# Altium footprint library Package_DIP.PcbLib: 281 footprints (part 3 of 18)
Each footprint in its own frame and in the unit in brackets; x right, y up, seen from the top. Pads: shape width x height; smd on the part's side, far side on the other; paste and mask are expansions set on the pad; w line width, h text height; cw(c..) or ccw(c..) is an arc to the next point about the centre after c.
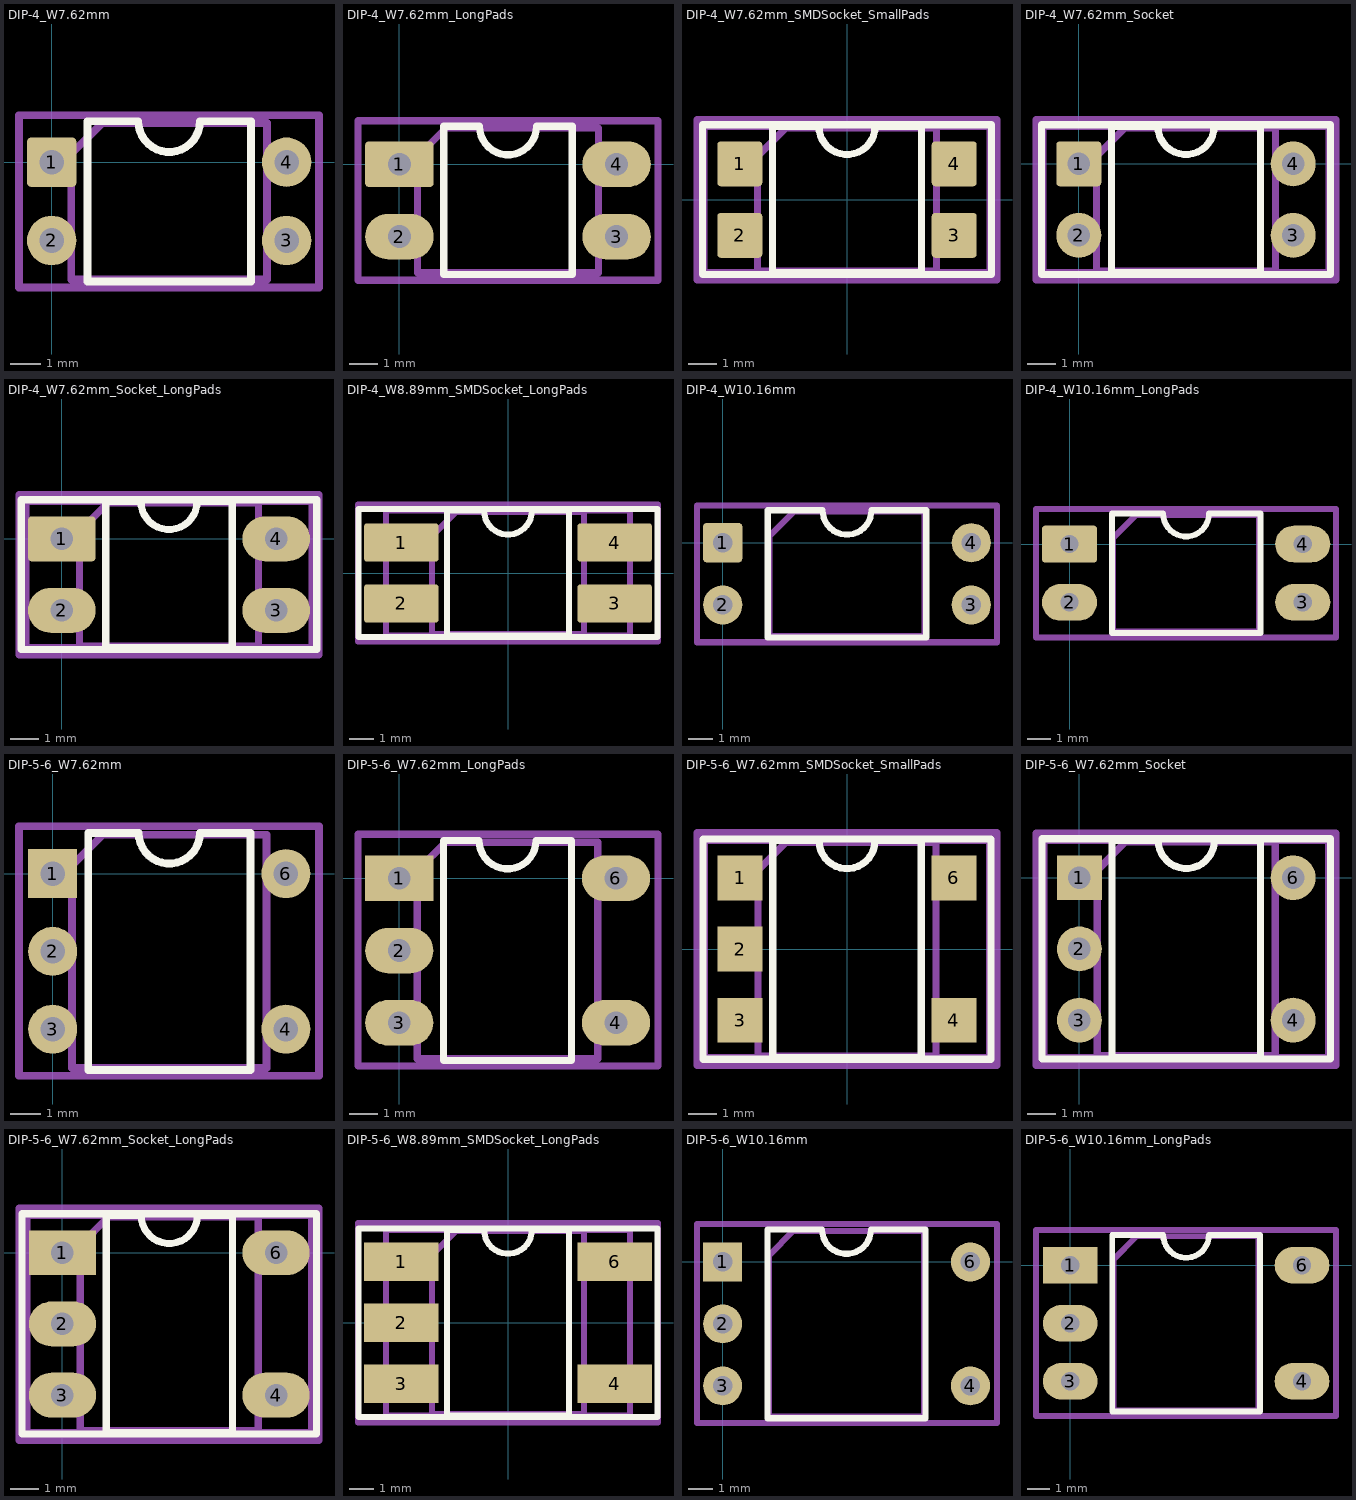
[diagram p2: the footprints below, top view; thin cyan lines are the x and y axes]

## DIP-4_W7.62mm [mm]
pads (4):
  rrect16% 1.6x1.6 hole 0.8: 1(0,0)
  round 1.6 hole 0.8: 2(0,-2.54) 3(7.62,-2.54) 4(7.62,0)
F.SilkS:
  lines w0.254: 1.16,-3.87 6.46,-3.87 6.46,1.33 4.81,1.33 cw(c3.81,1.33) 2.81,1.33 1.16,1.33 1.16,-3.87
Top Assembly:
  lines w0.254: 0.635,-3.81 6.985,-3.81 6.985,1.27 1.635,1.27 0.635,0.27 0.635,-3.81
  text "'.Designator'" at -0.237,-2.11 h1
Top Courtyard:
  lines w0.254: -1.06,-4.07 8.67,-4.07 8.67,1.52 -1.06,1.52 -1.06,-4.07
Top Designator:
  text ".Designator" at -3.813,-1.783 h1.52
3D body "DIP-4_W7.62mm.step": height 3.68, standoff -3.3, extent -0.127,-3.735 7.747,1.195

## DIP-4_W7.62mm_LongPads [mm]
pads (4):
  rrect16% 2.4x1.6 hole 0.8: 1(0,0)
  rrect100% 2.4x1.6 hole 0.8: 2(0,-2.54) 3(7.62,-2.54) 4(7.62,0)
F.SilkS:
  lines w0.254: 1.56,-3.87 6.06,-3.87 6.06,1.33 4.81,1.33 cw(c3.81,1.33) 2.81,1.33 1.56,1.33 1.56,-3.87
Top Assembly:
  lines w0.254: 0.635,-3.81 6.985,-3.81 6.985,1.27 1.635,1.27 0.635,0.27 0.635,-3.81
  text "'.Designator'" at -0.237,-2.11 h1
Top Courtyard:
  lines w0.254: -1.45,-4.07 9.07,-4.07 9.07,1.52 -1.45,1.52 -1.45,-4.07
Top Designator:
  text ".Designator" at 0.376,-1.62 h1.52
3D body "DIP-4_W7.62mm.step": height 3.68, standoff -3.3, extent -0.254,-3.787 7.62,1.143

## DIP-4_W7.62mm_SMDSocket_SmallPads [mm]
pads (4):
  rrect16% 1.6x1.6 smd: 1(-3.81,1.27) 2(-3.81,-1.27) 3(3.81,-1.27) 4(3.81,1.27)
F.SilkS:
  lines w0.254: -5.14,-2.66 5.14,-2.66 5.14,2.66 -5.14,2.66 -5.14,-2.66 ; -2.65,-2.6 2.65,-2.6 2.65,2.6 1,2.6 cw(c0,2.6) -1,2.6 -2.65,2.6 -2.65,-2.6
Top Assembly:
  lines w0.254: -5.08,-2.6 5.08,-2.6 5.08,2.6 -5.08,2.6 -5.08,-2.6 ; -3.175,-2.54 3.175,-2.54 3.175,2.54 -2.175,2.54 -3.175,1.54 -3.175,-2.54
  text "'.Designator'" at -4.047,-0.84 h1
Top Courtyard:
  lines w0.254: -5.33,-2.85 5.33,-2.85 5.33,2.85 -5.33,2.85 -5.33,-2.85
Top Designator:
  text ".Designator" at -7.618,-0.508 h1.52

## DIP-4_W7.62mm_Socket [mm]
pads (4):
  rrect16% 1.6x1.6 hole 0.8: 1(0,0)
  round 1.6 hole 0.8: 2(0,-2.54) 3(7.62,-2.54) 4(7.62,0)
F.SilkS:
  lines w0.254: -1.33,-3.93 8.95,-3.93 8.95,1.39 -1.33,1.39 -1.33,-3.93 ; 1.16,-3.87 6.46,-3.87 6.46,1.33 4.81,1.33 cw(c3.81,1.33) 2.81,1.33 1.16,1.33 1.16,-3.87
Top Assembly:
  lines w0.254: -1.27,-3.87 8.89,-3.87 8.89,1.33 -1.27,1.33 -1.27,-3.87 ; 0.635,-3.81 6.985,-3.81 6.985,1.27 1.635,1.27 0.635,0.27 0.635,-3.81
  text "'.Designator'" at -0.237,-2.11 h1
Top Courtyard:
  lines w0.254: -1.52,-4.12 9.14,-4.12 9.14,1.58 -1.52,1.58 -1.52,-4.12
Top Designator:
  text ".Designator" at -3.808,-1.778 h1.52

## DIP-4_W7.62mm_Socket_LongPads [mm]
pads (4):
  rrect16% 2.4x1.6 hole 0.8: 1(0,0)
  rrect100% 2.4x1.6 hole 0.8: 2(0,-2.54) 3(7.62,-2.54) 4(7.62,0)
F.SilkS:
  lines w0.254: -1.44,-3.93 9.06,-3.93 9.06,1.39 -1.44,1.39 -1.44,-3.93 ; 1.56,-3.87 6.06,-3.87 6.06,1.33 4.81,1.33 cw(c3.81,1.33) 2.81,1.33 1.56,1.33 1.56,-3.87
Top Assembly:
  lines w0.254: -1.27,-3.87 8.89,-3.87 8.89,1.33 -1.27,1.33 -1.27,-3.87 ; 0.635,-3.81 6.985,-3.81 6.985,1.27 1.635,1.27 0.635,0.27 0.635,-3.81
  text "'.Designator'" at -0.237,-2.11 h1
Top Courtyard:
  lines w0.254: -1.52,-4.12 9.14,-4.12 9.14,1.58 -1.52,1.58 -1.52,-4.12
Top Designator:
  text ".Designator" at -3.808,-1.778 h1.52

## DIP-4_W8.89mm_SMDSocket_LongPads [mm]
pads (4):
  rrect16% 3.1x1.6 smd: 1(-4.445,1.27) 2(-4.445,-1.27) 3(4.445,-1.27) 4(4.445,1.27)
F.SilkS:
  lines w0.254: -6.235,-2.66 6.235,-2.66 6.235,2.66 -6.235,2.66 -6.235,-2.66 ; -2.535,-2.6 2.535,-2.6 2.535,2.6 1,2.6 cw(c0,2.6) -1,2.6 -2.535,2.6 -2.535,-2.6
Top Assembly:
  lines w0.254: -5.08,-2.6 5.08,-2.6 5.08,2.6 -5.08,2.6 -5.08,-2.6 ; -3.175,-2.54 3.175,-2.54 3.175,2.54 -2.175,2.54 -3.175,1.54 -3.175,-2.54
  text "'.Designator'" at -4.047,-0.84 h1
Top Courtyard:
  lines w0.254: -6.25,-2.85 6.25,-2.85 6.25,2.85 -6.25,2.85 -6.25,-2.85
Top Designator:
  text ".Designator" at -7.618,-0.508 h1.52

## DIP-4_W10.16mm [mm]
pads (4):
  rrect16% 1.6x1.6 hole 0.8: 1(0,0)
  round 1.6 hole 0.8: 2(0,-2.54) 3(10.16,-2.54) 4(10.16,0)
F.SilkS:
  lines w0.254: 1.845,-3.87 8.315,-3.87 8.315,1.33 6.08,1.33 cw(c5.08,1.33) 4.08,1.33 1.845,1.33 1.845,-3.87
Top Assembly:
  lines w0.254: 1.905,-3.81 8.255,-3.81 8.255,1.27 2.905,1.27 1.905,0.27 1.905,-3.81
  text "'.Designator'" at 1.033,-2.11 h1
Top Courtyard:
  lines w0.254: -1.05,-4.07 11.21,-4.07 11.21,1.52 -1.05,1.52 -1.05,-4.07
Top Designator:
  text ".Designator" at -2.538,-1.783 h1.52

## DIP-4_W10.16mm_LongPads [mm]
pads (4):
  rrect16% 2.4x1.6 hole 0.8: 1(0,0)
  rrect100% 2.4x1.6 hole 0.8: 2(0,-2.54) 3(10.16,-2.54) 4(10.16,0)
F.SilkS:
  lines w0.254: 1.845,-3.87 8.315,-3.87 8.315,1.33 6.08,1.33 cw(c5.08,1.33) 4.08,1.33 1.845,1.33 1.845,-3.87
Top Assembly:
  lines w0.254: 1.905,-3.81 8.255,-3.81 8.255,1.27 2.905,1.27 1.905,0.27 1.905,-3.81
  text "'.Designator'" at 1.033,-2.11 h1
Top Courtyard:
  lines w0.254: -1.46,-4.07 11.61,-4.07 11.61,1.52 -1.46,1.52 -1.46,-4.07
Top Designator:
  text ".Designator" at -2.543,-1.783 h1.52

## DIP-5-6_W7.62mm [mm]
pads (5):
  rect 1.6x1.6 hole 0.8: 1(0,0)
  rrect100% 1.6x1.6 hole 0.8: 2(0,-2.54) 3(0,-5.08) 4(7.62,-5.08) 6(7.62,0)
F.SilkS:
  lines w0.254: 1.16,-6.41 6.46,-6.41 6.46,1.33 4.81,1.33 cw(c3.81,1.33) 2.81,1.33 1.16,1.33 1.16,-6.41
Top Assembly:
  lines w0.254: 0.635,-6.35 6.985,-6.35 6.985,1.27 1.635,1.27 0.635,0.27 0.635,-6.35
  text "'.Designator'" at -0.237,-3.38 h1
Top Courtyard:
  lines w0.254: -1.1,-6.6 8.7,-6.6 8.7,1.55 -1.1,1.55 -1.1,-6.6
Top Designator:
  text ".Designator" at -3.818,-3.033 h1.52

## DIP-5-6_W7.62mm_LongPads [mm]
pads (5):
  rect 2.4x1.6 hole 0.8: 1(0,0)
  rrect100% 2.4x1.6 hole 0.8: 2(0,-2.54) 3(0,-5.08) 4(7.62,-5.08) 6(7.62,0)
F.SilkS:
  lines w0.254: 1.56,-6.41 6.06,-6.41 6.06,1.33 4.81,1.33 cw(c3.81,1.33) 2.81,1.33 1.56,1.33 1.56,-6.41
Top Assembly:
  lines w0.254: 0.635,-6.35 6.985,-6.35 6.985,1.27 1.635,1.27 0.635,0.27 0.635,-6.35
  text "'.Designator'" at -0.237,-3.38 h1
Top Courtyard:
  lines w0.254: -1.45,-6.6 9.1,-6.6 9.1,1.55 -1.45,1.55 -1.45,-6.6
Top Designator:
  text ".Designator" at -3.793,-3.033 h1.52

## DIP-5-6_W7.62mm_SMDSocket_SmallPads [mm]
pads (5):
  rect 1.6x1.6 smd: 1(-3.81,2.54) 2(-3.81,0) 3(-3.81,-2.54) 4(3.81,-2.54) 6(3.81,2.54)
F.SilkS:
  lines w0.254: -5.14,-3.93 5.14,-3.93 5.14,3.93 -5.14,3.93 -5.14,-3.93 ; -2.65,-3.87 2.65,-3.87 2.65,3.87 1,3.87 cw(c0,3.87) -1,3.87 -2.65,3.87 -2.65,-3.87
Top Assembly:
  lines w0.254: -5.08,-3.87 5.08,-3.87 5.08,3.87 -5.08,3.87 -5.08,-3.87 ; -3.175,-3.81 3.175,-3.81 3.175,3.81 -2.175,3.81 -3.175,2.81 -3.175,-3.81
  text "'.Designator'" at -4.047,-0.84 h1
Top Courtyard:
  lines w0.254: -5.35,-4.15 5.35,-4.15 5.35,4.15 -5.35,4.15 -5.35,-4.15
Top Designator:
  text ".Designator" at -7.618,-0.508 h1.52

## DIP-5-6_W7.62mm_Socket [mm]
pads (5):
  rect 1.6x1.6 hole 0.8: 1(0,0)
  rrect100% 1.6x1.6 hole 0.8: 2(0,-2.54) 3(0,-5.08) 4(7.62,-5.08) 6(7.62,0)
F.SilkS:
  lines w0.254: -1.33,-6.47 8.95,-6.47 8.95,1.39 -1.33,1.39 -1.33,-6.47 ; 1.16,-6.41 6.46,-6.41 6.46,1.33 4.81,1.33 cw(c3.81,1.33) 2.81,1.33 1.16,1.33 1.16,-6.41
Top Assembly:
  lines w0.254: -1.27,-6.41 8.89,-6.41 8.89,1.33 -1.27,1.33 -1.27,-6.41 ; 0.635,-6.35 6.985,-6.35 6.985,1.27 1.635,1.27 0.635,0.27 0.635,-6.35
  text "'.Designator'" at -0.237,-3.38 h1
Top Courtyard:
  lines w0.254: -1.55,-6.7 9.15,-6.7 9.15,1.6 -1.55,1.6 -1.55,-6.7
Top Designator:
  text ".Designator" at -3.818,-3.058 h1.52

## DIP-5-6_W7.62mm_Socket_LongPads [mm]
pads (5):
  rect 2.4x1.6 hole 0.8: 1(0,0)
  rrect100% 2.4x1.6 hole 0.8: 2(0,-2.54) 3(0,-5.08) 4(7.62,-5.08) 6(7.62,0)
F.SilkS:
  lines w0.254: -1.44,-6.47 9.06,-6.47 9.06,1.39 -1.44,1.39 -1.44,-6.47 ; 1.56,-6.41 6.06,-6.41 6.06,1.33 4.81,1.33 cw(c3.81,1.33) 2.81,1.33 1.56,1.33 1.56,-6.41
Top Assembly:
  lines w0.254: -1.27,-6.41 8.89,-6.41 8.89,1.33 -1.27,1.33 -1.27,-6.41 ; 0.635,-6.35 6.985,-6.35 6.985,1.27 1.635,1.27 0.635,0.27 0.635,-6.35
  text "'.Designator'" at -0.237,-3.38 h1
Top Courtyard:
  lines w0.254: -1.55,-6.7 9.15,-6.7 9.15,1.6 -1.55,1.6 -1.55,-6.7
Top Designator:
  text ".Designator" at -3.818,-3.058 h1.52

## DIP-5-6_W8.89mm_SMDSocket_LongPads [mm]
pads (5):
  rect 3.1x1.6 smd: 1(-4.445,2.54) 2(-4.445,0) 3(-4.445,-2.54) 4(4.445,-2.54) 6(4.445,2.54)
F.SilkS:
  lines w0.254: -6.235,-3.93 6.235,-3.93 6.235,3.93 -6.235,3.93 -6.235,-3.93 ; -2.535,-3.87 2.535,-3.87 2.535,3.87 1,3.87 cw(c0,3.87) -1,3.87 -2.535,3.87 -2.535,-3.87
Top Assembly:
  lines w0.254: -5.08,-3.87 5.08,-3.87 5.08,3.87 -5.08,3.87 -5.08,-3.87 ; -3.175,-3.81 3.175,-3.81 3.175,3.81 -2.175,3.81 -3.175,2.81 -3.175,-3.81
  text "'.Designator'" at -4.047,-0.84 h1
Top Courtyard:
  lines w0.254: -6.25,-4.15 6.25,-4.15 6.25,4.15 -6.25,4.15 -6.25,-4.15
Top Designator:
  text ".Designator" at -7.618,-0.508 h1.52

## DIP-5-6_W10.16mm [mm]
pads (5):
  rect 1.6x1.6 hole 0.8: 1(0,0)
  rrect100% 1.6x1.6 hole 0.8: 2(0,-2.54) 3(0,-5.08) 4(10.16,-5.08) 6(10.16,0)
F.SilkS:
  lines w0.254: 1.845,-6.41 8.315,-6.41 8.315,1.33 6.08,1.33 cw(c5.08,1.33) 4.08,1.33 1.845,1.33 1.845,-6.41
Top Assembly:
  lines w0.254: 1.905,-6.35 8.255,-6.35 8.255,1.27 2.905,1.27 1.905,0.27 1.905,-6.35
  text "'.Designator'" at 1.033,-3.38 h1
Top Courtyard:
  lines w0.254: -1.05,-6.6 11.25,-6.6 11.25,1.55 -1.05,1.55 -1.05,-6.6
Top Designator:
  text ".Designator" at -2.518,-3.033 h1.52

## DIP-5-6_W10.16mm_LongPads [mm]
pads (5):
  rect 2.4x1.6 hole 0.8: 1(0,0)
  rrect100% 2.4x1.6 hole 0.8: 2(0,-2.54) 3(0,-5.08) 4(10.16,-5.08) 6(10.16,0)
F.SilkS:
  lines w0.254: 1.845,-6.41 8.315,-6.41 8.315,1.33 6.08,1.33 cw(c5.08,1.33) 4.08,1.33 1.845,1.33 1.845,-6.41
Top Assembly:
  lines w0.254: 1.905,-6.35 8.255,-6.35 8.255,1.27 2.905,1.27 1.905,0.27 1.905,-6.35
  text "'.Designator'" at 1.033,-3.38 h1
Top Courtyard:
  lines w0.254: -1.5,-6.6 11.65,-6.6 11.65,1.55 -1.5,1.55 -1.5,-6.6
Top Designator:
  text ".Designator" at -2.543,-3.033 h1.52